# Altium footprint library Manu3.PcbLib: 69 footprints (part 1 of 5)
Each footprint in its own frame and in the unit in brackets; x right, y up, seen from the top. Pads: shape width x height; smd on the part's side, far side on the other; paste and mask are expansions set on the pad; w line width, h text height; cw(c..) or ccw(c..) is an arc to the next point about the centre after c.
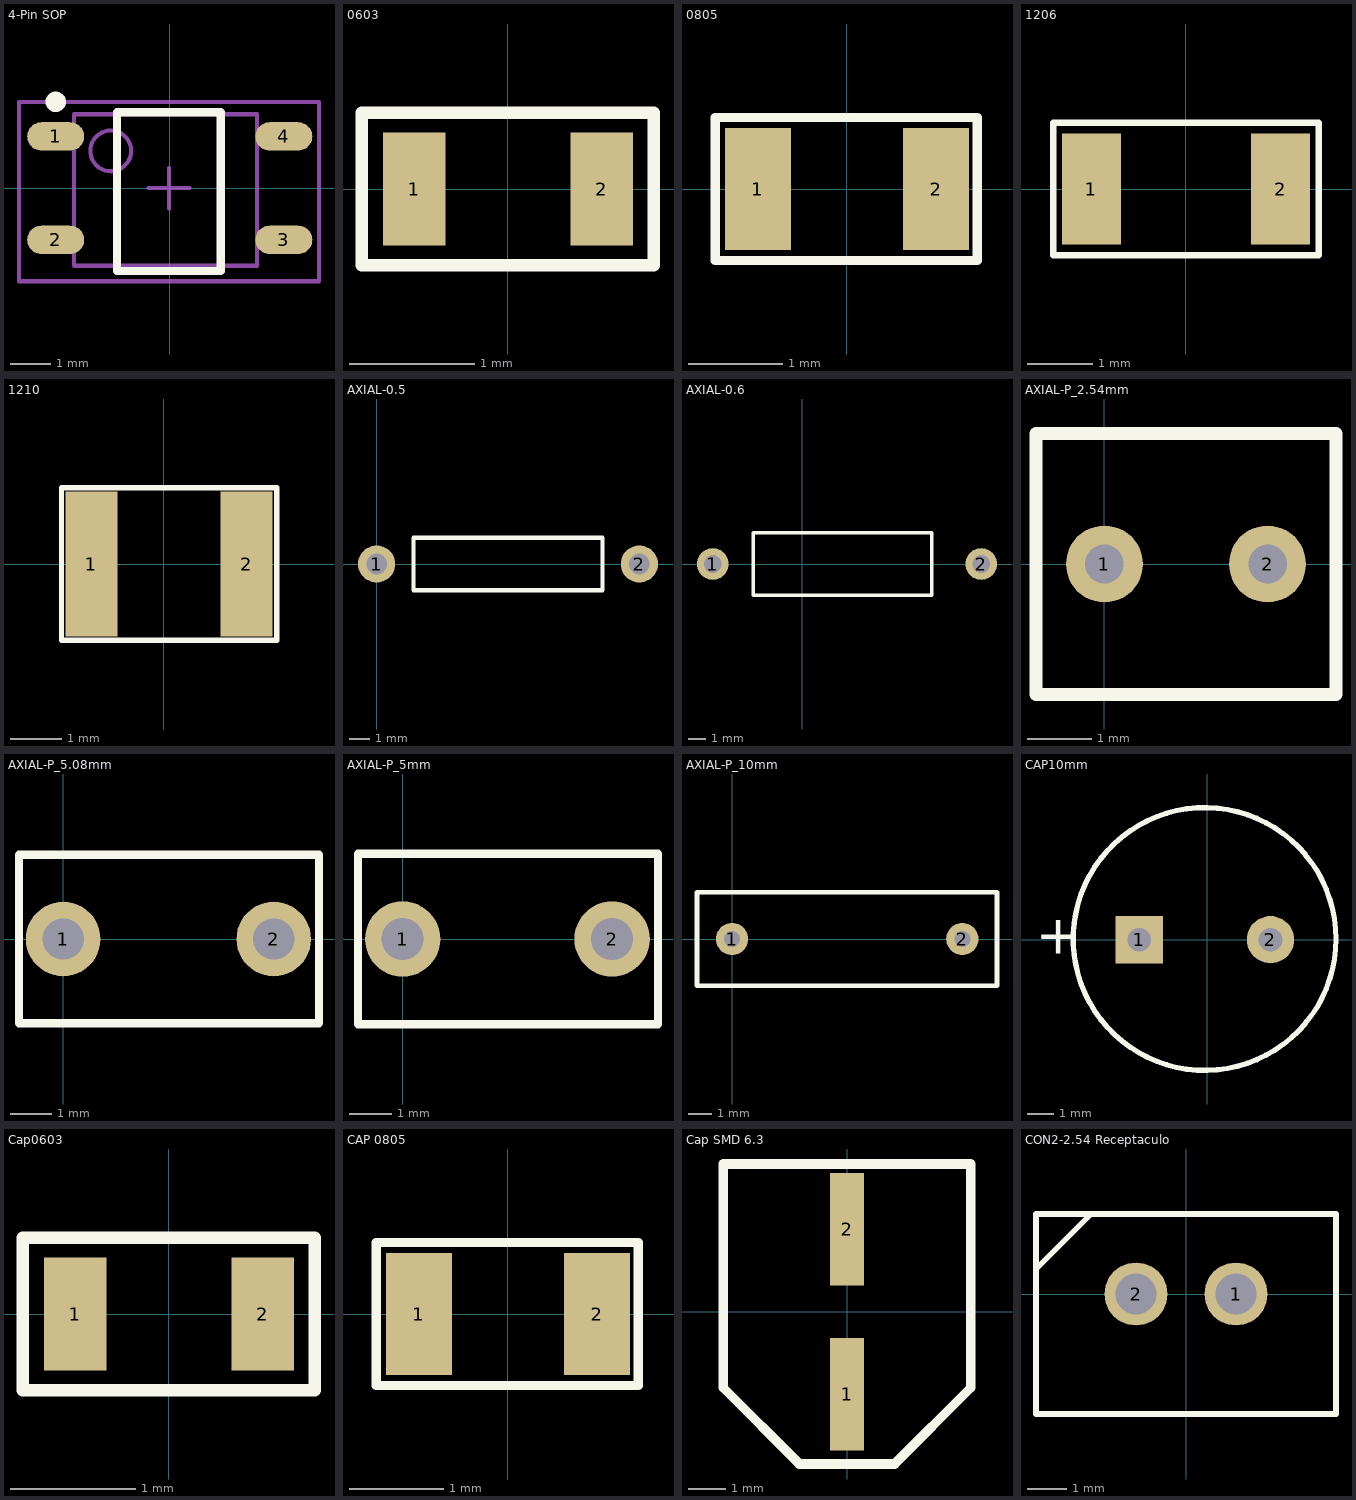
[diagram p0: the footprints below, top view; thin cyan lines are the x and y axes]

## 4-Pin SOP [mm] "4-Pin SOP"
height 2.184
pads (4):
  oval 1.4x0.7 smd: 1(-2.8,1.27) 2(-2.8,-1.27) 3(2.8,-1.27) 4(2.8,1.27)
Top Overlay:
  circle w0.25: c-2.8,2.12 r0.125
  lines w0.2: -1.3,-2.032 -1.3,1.865 1.251,1.865 1.251,-2.032 -1.3,-2.032
Mechanical 13:
  circle w0.1: c-1.45,0.915 r0.5
  lines w0.1: -2.35,-1.905 -2.35,1.815 2.14,1.815 2.14,-1.905 -2.35,-1.905
Mechanical 15:
  lines w0.1: -0.519,0 0.481,0 ; -0.019,-0.5 -0.019,0.5 ; -3.702,-2.286 -3.702,2.115 3.664,2.115 3.664,-2.286 -3.702,-2.286
3D body: height 1.75, standoff 0.03, extent -2.35,-1.905 2.14,1.815

## 0603 [mm] "Tamaño 0603 para pasar por el horno"
height 0.45
pads (2):
  rect 0.5x0.9 smd: 1(-0.75,0) 2(0.75,0)
Top Overlay:
  lines w0.1: -1.172,-0.61 -1.172,0.61 1.165,0.61 1.165,-0.61 -1.172,-0.61
3D body: height 1.1, standoff 0, extent -1.172,-0.61 1.165,0.61

## 0805 [mm] "Tamaño 0805"
height 0.45
pads (2):
  rect 0.7x1.3 smd: 1(-0.95,0) 2(0.95,0)
Top Overlay:
  lines w0.1: -1.405,-0.762 1.389,-0.762 1.389,0.762 -1.405,0.762 -1.405,-0.762
3D body: height 1.1, standoff 0, extent -1.405,-0.762 1.389,0.762

## 1206 [mm] "Tamaño 1206"
height 2.54
pads (2):
  rect 0.9x1.7 smd: 1(-1.45,0) 2(1.45,0)
Top Overlay:
  lines w0.1: -2.032,-1.016 -2.032,1.016 2.032,1.016 2.032,-1.016 -2.032,-1.016
3D body: height 1.1, standoff 0, extent -2.032,-1.016 2.032,1.016

## 1210 [mm] "Tamaño 1210"
height 2.54
pads (2):
  rect 1x2.8 smd: 1(-1.4,0) 2(1.6,0)
Top Overlay:
  lines w0.1: -1.981,-1.473 2.184,-1.473 2.184,1.473 -1.981,1.473 -1.981,-1.473
3D body: height 1.1, standoff 0, extent -1.981,-1.473 2.184,1.473

## AXIAL-0.5 [mm] "Resistor; 2 Leads 1/4W 500mil"
height 2.5
pads (2):
  round 1.8 hole 1: 1(0,0) 2(12.7,0)
Top Overlay:
  lines w0.2: 1.778,-1.27 1.778,1.27 10.922,1.27 10.922,-1.27 1.778,-1.27

## AXIAL-0.6 [mm] "Resistor; 2 Leads 1/2W 600mil"
height 3.5
pads (2):
  round 1.8 hole 1: 1(-5.08,0) 2(10.16,0)
Top Overlay:
  lines w0.2: -2.794,-1.778 -2.794,1.778 7.366,1.778 7.366,-1.778 -2.794,-1.778

## AXIAL-P_2.54mm [mm] "Paso 2.54mm"
height 2.54
pads (2):
  round 1.2 hole 0.6: 1(0,0) 2(2.54,0)
Top Overlay:
  lines w0.2: -1.067,-2.032 3.607,-2.032 3.607,2.032 -1.067,2.032 -1.067,-2.032
3D body: height 6.5, standoff -2.33, extent -1.506,-1.23 3.995,1.27

## AXIAL-P_5.08mm [mm] "Paso 5.08mm"
height 5.08
pads (2):
  round 1.8 hole 1: 1(0,0) 2(5.08,0)
Top Overlay:
  lines w0.2: -1.067,-2.032 -1.067,2.032 6.172,2.032 6.172,-2.032 -1.067,-2.032
3D body: height 8.5, standoff -2.5, extent -1.159,-1.148 6.341,1.352

## AXIAL-P_5mm [mm] "Paso 5mm"
height 4.5
pads (2):
  round 1.8 hole 1: 1(0,0) 2(5,0)
Top Overlay:
  lines w0.2: -1.067,-2.032 6.096,-2.032 6.096,2.032 -1.067,2.032 -1.067,-2.032
3D body: height 6, standoff -2, extent -0.329,-1.626 5.458,1.55

## AXIAL-P_10mm [mm] "Paso 10mm"
height 9
pads (2):
  round 1.4 hole 0.7: 1(0,0) 2(10,0)
Top Overlay:
  lines w0.2: -1.524,-2.032 -1.524,2.032 11.506,2.032 11.506,-2.032 -1.524,-2.032
3D body: height 3.6, standoff -11.5, extent -1.522,-1.974 11.478,2.026

## CAP10mm [mm] "10mmdiametro"
height 16
pads (2):
  rect 1.8x1.8 hole 0.9: 1(-2.591,0)
  round 1.8 hole 0.9: 2(2.409,0)
Top Overlay:
  circle w0.2: c-0.098,0.025 r5
  text "+" at -6.515,-0.535 h1.5
3D body: height 20.8, standoff -0.7, extent -5.125,-4.986 4.871,4.999

## Cap0603 [mm] "Tamaño 0603 para pasar por el horno"
height 0.45
pads (2):
  rect 0.5x0.9 smd: 1(-0.75,0) 2(0.75,0)
Top Overlay:
  lines w0.1: -1.172,-0.61 1.165,-0.61 1.165,0.61 -1.172,0.61 -1.172,-0.61
3D body: height 0.89, standoff -0.01, extent -1.261,-0.518 1.339,0.482

## CAP 0805 [mm] "Tamaño 0805"
height 0.45
pads (2):
  rect 0.7x1.3 smd: 1(-0.95,0) 2(0.95,0)
Top Overlay:
  lines w0.1: -1.405,-0.762 -1.405,0.762 1.389,0.762 1.389,-0.762 -1.405,-0.762
3D body: height 0.78, standoff 0, extent -1,-0.625 1,0.625

## Cap SMD 6.3 [mm] "Condensador smd D=6.3"
height 7.7
pads (2):
  rect 0.9x3 smd: 1(0,-2.2) 2(0,2.2)
Top Overlay:
  lines w0.254: -3.302,-2.032 -1.27,-4.064 1.27,-4.064 3.302,-2.032 3.302,3.937 -3.302,3.937 -3.302,-2.032

## CON2-2.54 Receptaculo [mm] "Conector Cable placa p= 2.54mm C.F: (2vias)"
height 6
pads (2):
  round 1.6 hole 1.05: 1(1.27,0) 2(-1.27,0)
Top Overlay:
  lines w0.15: -3.81,0.635 -2.413,2.032 ; -3.81,-3.048 -3.81,2.032 3.81,2.032 3.81,-3.048 -3.81,-3.048